# Altium footprint library Misc.PcbLib: 56 footprints (part 2 of 4)
Each footprint in its own frame and in the unit in brackets; x right, y up, seen from the top. Pads: shape width x height; smd on the part's side, far side on the other; paste and mask are expansions set on the pad; w line width, h text height; cw(c..) or ccw(c..) is an arc to the next point about the centre after c.
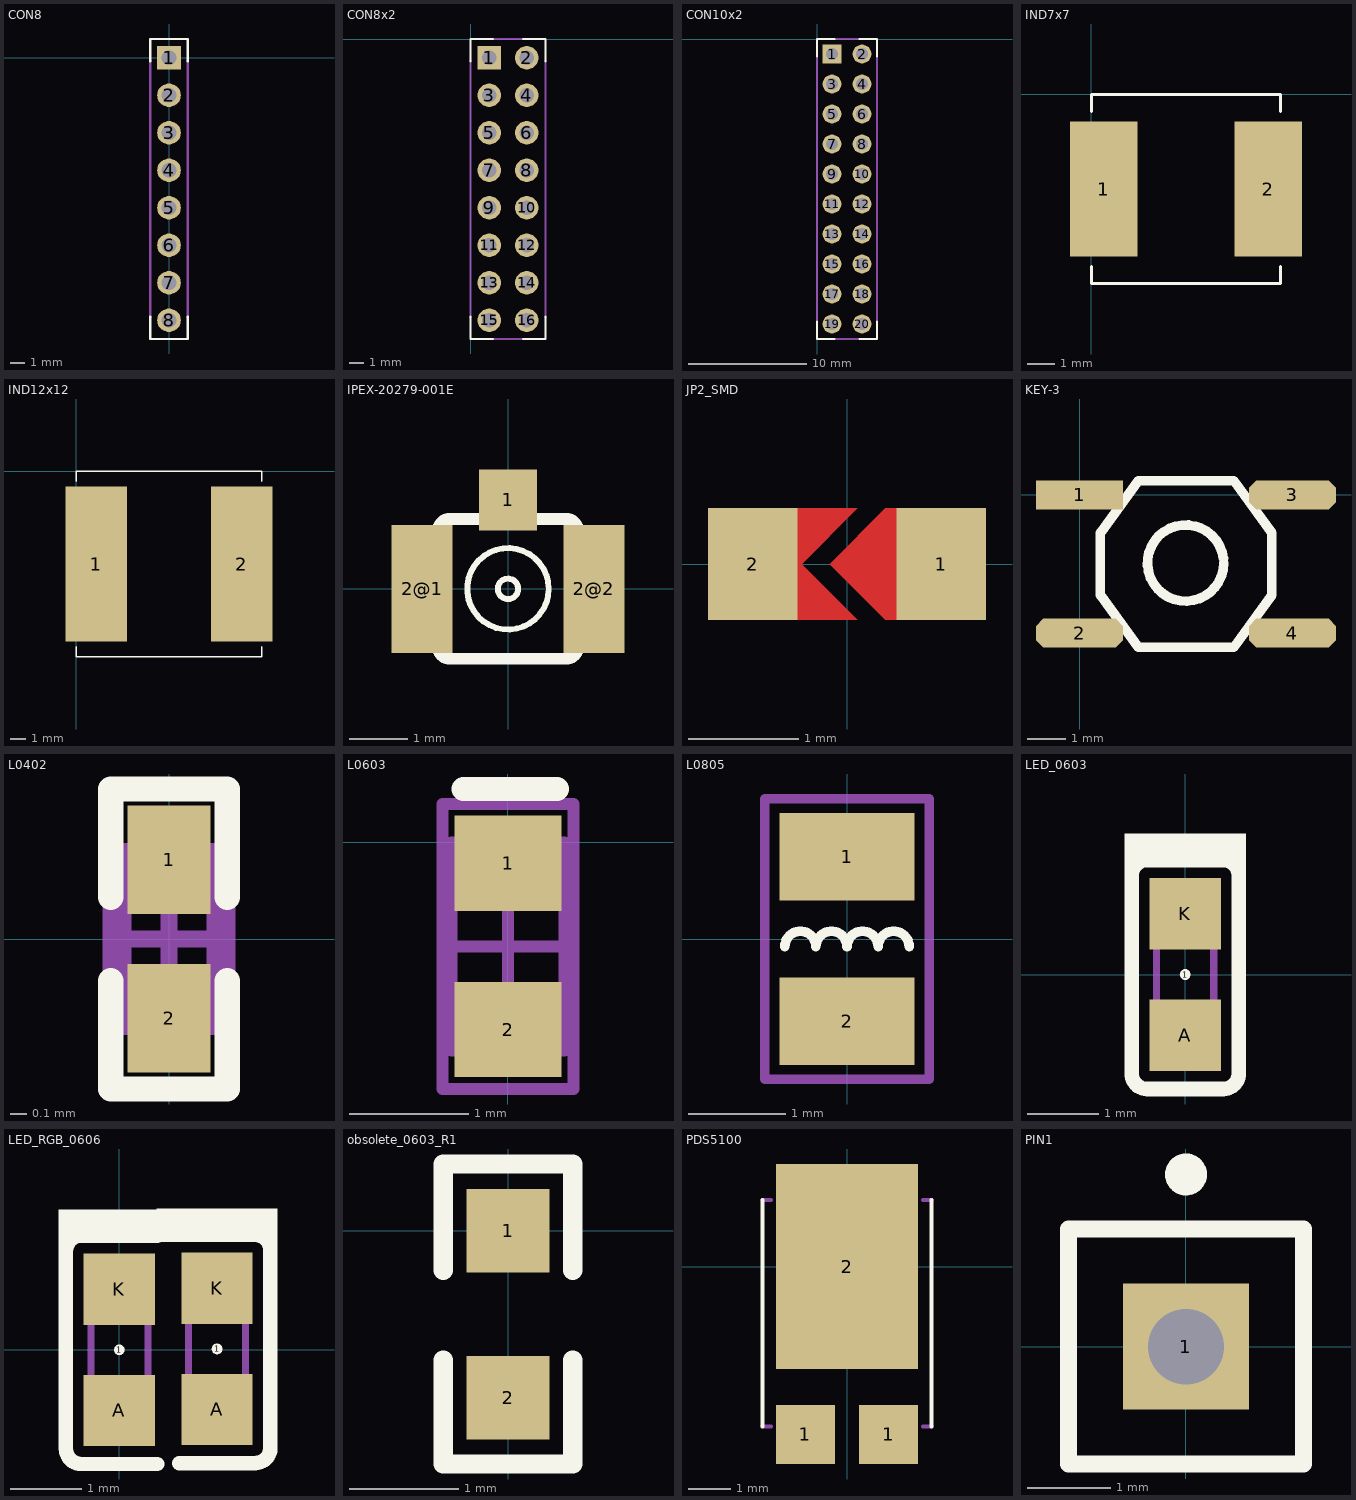
[diagram p1: the footprints below, top view; thin cyan lines are the x and y axes]

## CON8 [mm] "2.54针对角0.9 内取1.0  外取1.6"
pads (8):
  rect 1.6x1.6 hole 1: 1(0,0)
  round 1.6 hole 1: 2(0,-2.54) 3(0,-5.08) 4(0,-7.62) 5(0,-10.16) 6(0,-12.7) 7(0,-15.24) 8(0,-17.78)
Top Overlay:
  lines w0.15: -1.27,-17.55 -1.27,-19.05 1.27,-19.05 1.27,-17.55 ; -1.27,-0.23 -1.27,1.27 1.27,1.27 1.27,-0.23
Mechanical 15:
  lines w0.15: -1.27,-17.55 -1.27,-0.23 ; 1.27,-17.55 1.27,-0.23

## CON8x2 [mm] "Switch; 2 Leads"
pads (16):
  rect 1.6x1.6 hole 1: 1(1.27,-1.27)
  round 1.6 hole 1: 2(3.81,-1.27) 3(1.27,-3.81) 4(3.81,-3.81) 5(1.27,-6.35) 6(3.81,-6.35) 7(1.27,-8.89) 8(3.81,-8.89) 9(1.27,-11.43) 10(3.81,-11.43) 11(1.27,-13.97) 12(3.81,-13.97) 13(1.27,-16.51) 14(3.81,-16.51) 15(1.27,-19.05) 16(3.81,-19.05)
Top Overlay:
  lines w0.15: 0,-18.82 0,-20.32 1.5,-20.32 ; 0,-1.5 0,0 1.5,0 ; 3.58,-20.32 5.08,-20.32 5.08,-18.82 ; 3.58,0 5.08,0 5.08,-1.5
Mechanical 15:
  lines w0.15: 0,-18.82 0,-1.5 ; 1.5,-20.32 3.58,-20.32 ; 1.5,0 3.58,0 ; 5.08,-18.82 5.08,-1.5

## CON10x2 [mm] "Switch; 2 Leads"
pads (20):
  rect 1.6x1.6 hole 1: 1(1.27,-1.27)
  round 1.6 hole 1: 2(3.81,-1.27) 3(1.27,-3.81) 4(3.81,-3.81) 5(1.27,-6.35) 6(3.81,-6.35) 7(1.27,-8.89) 8(3.81,-8.89) 9(1.27,-11.43) 10(3.81,-11.43) 11(1.27,-13.97) 12(3.81,-13.97) 13(1.27,-16.51) 14(3.81,-16.51) 15(1.27,-19.05) 16(3.81,-19.05) 17(1.27,-21.59) 18(3.81,-21.59) 19(1.27,-24.13) 20(3.81,-24.13)
Top Overlay:
  lines w0.15: 0,-23.9 0,-25.4 1.5,-25.4 ; 0,-1.5 0,0 1.5,0 ; 3.58,-25.4 5.08,-25.4 5.08,-23.9 ; 3.58,0 5.08,0 5.08,-1.5
Mechanical 15:
  lines w0.15: 0,-23.9 0,-1.5 ; 1.5,-25.4 3.58,-25.4 ; 1.5,0 3.58,0 ; 5.08,-23.9 5.08,-1.5

## IND7x7 [mm]
pads (2):
  rect 2.5x5 smd: 1(0.45,-3.5) 2(6.55,-3.5)
Top Overlay:
  lines w0.1: 0,-6.365 0,-7 7,-7 7,-6.365 ; 0,-0.635 0,0 7,0 7,-0.635

## IND12x12 [mm]
pads (2):
  rect 4x10 smd: 1(1.3,-6) 2(10.7,-6)
Top Overlay:
  lines w0.1: 0,-11.365 0,-12 12,-12 12,-11.365 ; 0,-0.635 0,0 12,0 12,-0.635

## IPEX-20279-001E [mm]
pads (3):
  rect 1x1.05 smd: 1(0,1.528)
  rect 1.05x2.2 smd: 2@1(-1.475,0) 2@2(1.475,0)
Top Overlay:
  circle w0.102: c0,0 r0.7
  circle w0.102: c0,0 r0.175
  rectangle: -0.3,1.3 0.3,1.55
  lines w0.203: -0.5,-1.2 0.5,-1.2 ; -1.2,-1 ccw(c-1,-1) -1,-1.2 1,-1.2 ccw(c1,-1) 1.2,-1 1.2,1 ccw(c1,1) 1,1.2 -1,1.2 ccw(c-1,1) -1.2,1 -1.2,-1

## JP2_SMD [mil]
height 78.74
pads (2):
  rect 32x40 smd: 1(33.75,0) 2(-33.75,0)
Top Layer:
  region: 23.75,20 13.75,20 -6.25,0 13.75,-20 23.75,-20
  region: -26.25,0 -16.25,0 3.75,20 -26.25,20
  region: -26.25,0 -16.25,0 3.75,-20 -26.25,-20
Top Paste:
  region: 23.75,20 13.75,20 -6.25,0 13.75,-20 23.75,-20
  region: -26.25,0 -16.25,0 3.75,20 -26.25,20
  region: -26.25,0 -16.25,0 3.75,-20 -26.25,-20
Top Solder:
  region: 23.75,24 13.75,24 -10.25,0 13.75,-24 23.75,-24
  region: -26.25,0 -12.25,0 11.75,24 -26.25,24
  region: -26.25,0 -12.25,0 11.75,-24 -26.25,-24

## KEY-3 [mil]
pads (4):
  rect 90x30 smd: 1(0,0)
  oct 90x30 smd: 2(0,-142.89) 3(220,-0.02) 4(220,-142.89)
Top Overlay:
  lines w10: 148.67,-65.59 ccw(c109.6,-70.47) 148.97,-70.47 ; 21.51,-103.44 60.88,-157.58 159.31,-157.58 198.68,-103.44 198.68,-39.47 159.31,14.66 60.88,14.66 21.51,-39.47 21.51,-103.44

## L0402 [mm]
pads (2):
  rect 0.5x0.65 smd: 1(0,0.475) 2(0,-0.475)
Top Overlay:
  lines w0.152: -0.35,-0.25 -0.35,-0.9 0.35,-0.9 0.35,-0.25 ; -0.35,0.25 -0.35,0.9 0.35,0.9 0.35,0.25
Mechanical 13:
  lines w0.1: -0.275,-0.525 0.275,-0.525 0.275,0.525 -0.275,0.525 -0.275,-0.525
Mechanical 15:
  lines w0.1: -0.275,0 0.275,0 ; 0,-0.275 0,0.275 ; -0.35,-0.9 0.35,-0.9 0.35,0.9 -0.35,0.9 -0.35,-0.9
3D body: height 0.5, standoff 0, extent -0.3,-0.5 0.3,0.5

## L0603 [mm]
height 2
pads (2):
  rect 0.9x0.8 smd: 1(0,-0.175) 2(0,-1.575)
Top Overlay:
  lines w0.203: -0.375,0.45 0.412,0.45
Mechanical 13:
  lines w0.1: -0.475,-1.75 -0.475,0 0.475,0 0.475,-1.75 -0.475,-1.75
Mechanical 15:
  lines w0.1: -0.475,-0.875 0.475,-0.875 ; 0,-1.35 0,-0.4 ; -0.55,-2.075 -0.55,0.325 0.55,0.325 0.55,-2.075 -0.55,-2.075
3D body: height 0.8, standoff 0, extent -0.428,-1.689 0.432,-0.089

## L0805 [mm] "2.0x1.2   两边超出0.1 长度超出0.3"
height 2
pads (2):
  rect 1.4x0.9 smd: 1(0,0.85) 2(0,-0.85)
Top Overlay:
  lines w0.1: -0.643,-0.08 cw(c-0.482,-0.08) -0.321,-0.08 cw(c-0.161,-0.08) 0,-0.08 cw(c0.161,-0.08) 0.321,-0.08 cw(c0.482,-0.08) 0.643,-0.08
Mechanical 15:
  lines w0.1: -0.85,-1.45 -0.85,1.45 0.85,1.45 0.85,-1.45 -0.85,-1.45

## LED_0603 [mm]
height 2
pads (3):
  round 0.152 on Top Overlay: 1(0,0)
  rect 1x1 smd paste+0 mask+0: A(0,-0.85) K(0,0.85)
Top Overlay:
  region: -0.851,1.782 -0.851,1.198 -0.686,1.198 -0.686,1.782
  region: -0.851,1.973 -0.851,1.516 0.851,1.516 0.851,1.973
  region: 0.665,1.782 0.665,1.132 0.851,1.132 0.851,1.782
  lines w0.203: -0.749,-1.386 ccw(c-0.533,-1.386) -0.533,-1.602 0.533,-1.602 ccw(c0.533,-1.386) 0.749,-1.386 0.749,1.386 ccw(c0.533,1.386) 0.533,1.602 -0.533,1.602 ccw(c-0.533,1.386) -0.749,1.386 -0.749,-1.386
Mechanical 7:
  lines w0.1: -0.4,-0.8 0.4,-0.8 0.4,0.8 -0.4,0.8 -0.4,-0.8
3D body: height 0.38, standoff 0, extent -0.532,-1.089 0.532,-0.664
3D body: height 0.38, standoff 0, extent -0.535,0.5 0.535,0.925
3D body: height 0.38, standoff 0, extent -0.533,-0.668 0.533,0.502
3D body: height 0.46, standoff 0, extent -0.464,-0.493 0.402,0.301

## LED_RGB_0606 [mm]
height 2
pads (6):
  round 0.152 on Top Overlay: 1(0,0) 1(1.372,0.013)
  rect 1x1 smd paste+0 mask+0: A(0,-0.85) A(1.372,-0.837) K(0,0.85) K(1.372,0.863)
Top Overlay:
  region: -0.851,1.973 -0.851,1.516 0.851,1.516 0.851,1.973
  region: -0.851,1.782 -0.851,1.198 -0.686,1.198 -0.686,1.782
  region: 0.521,1.986 0.521,1.529 2.222,1.529 2.222,1.986
  region: 2.037,1.795 2.037,1.145 2.222,1.145 2.222,1.795
  lines w0.203: 0.533,-1.602 -0.533,-1.602 cw(c-0.533,-1.386) -0.749,-1.386 -0.749,1.386 cw(c-0.533,1.386) -0.533,1.602 0.533,1.602 ; 0.838,-1.588 1.905,-1.588 ccw(c1.905,-1.373) 2.121,-1.373 2.121,1.399 ccw(c1.905,1.399) 1.905,1.615 0.838,1.615
Mechanical 7:
  lines w0.1: -0.4,-0.8 -0.4,0.8 0.4,0.8 0.4,-0.8 -0.4,-0.8 ; 0.972,-0.787 1.772,-0.787 1.772,0.813 0.972,0.813 0.972,-0.787
3D body: height 0.46, standoff 0, extent -0.464,-0.493 0.402,0.301
3D body: height 0.38, standoff 0, extent -0.533,-0.668 0.533,0.502
3D body: height 0.38, standoff 0, extent -0.535,0.5 0.535,0.925
3D body: height 0.38, standoff 0, extent -0.532,-1.089 0.532,-0.664
3D body: height 0.38, standoff 0, extent 0.84,-1.076 1.903,-0.651
3D body: height 0.38, standoff 0, extent 0.837,0.513 1.906,0.938
3D body: height 0.38, standoff 0, extent 0.838,-0.655 1.905,0.515
3D body: height 0.46, standoff 0, extent 0.907,-0.479 1.773,0.314

## obsolete_0603_R1 [mil] "YaoJun"
pads (2):
  rect 30x30 smd: 1(0,0) 2(0,-60)
Top Overlay:
  lines w7: -23.23,-46.46 -23.23,-83.86 23.23,-83.86 23.23,-46.46 ; -23.23,-14.22 -23.23,24.02 23.23,24.02 23.23,-14.22

## PDS5100 [mm] "diodes.com  Schottky"
pads (3):
  rect 1.39x1.4 smd: 1(-0.985,-3.982) 1(0.985,-3.982)
  rect 3.36x4.86 smd: 2(0,0)
Top Overlay:
  lines w0.1: -2,-3.795 -2,1.575 ; 2,-3.795 2,1.575
Mechanical 7:
  lines w0.1: -2,-3.795 -1.803,-3.795 ; -2,1.575 -1.803,1.575 ; 1.803,-3.795 2,-3.795 ; 1.803,1.575 2,1.575

## PIN1 [mm] "Generic Antenna; 1 Lead"
pads (1):
  rect 1.5x1.5 hole 0.9: 1(0,0)
Top Overlay:
  circle w0.25: c0,2.05 r0.125
  lines w0.2: -1.4,-1.4 -1.4,1.4 1.4,1.4 1.4,-1.4 -1.4,-1.4